# EAGLE library part MC74HC4053 (library MC74HC4053)
Triple single-pole, Double-position plus common off Analog multiplexer/demultiplexer
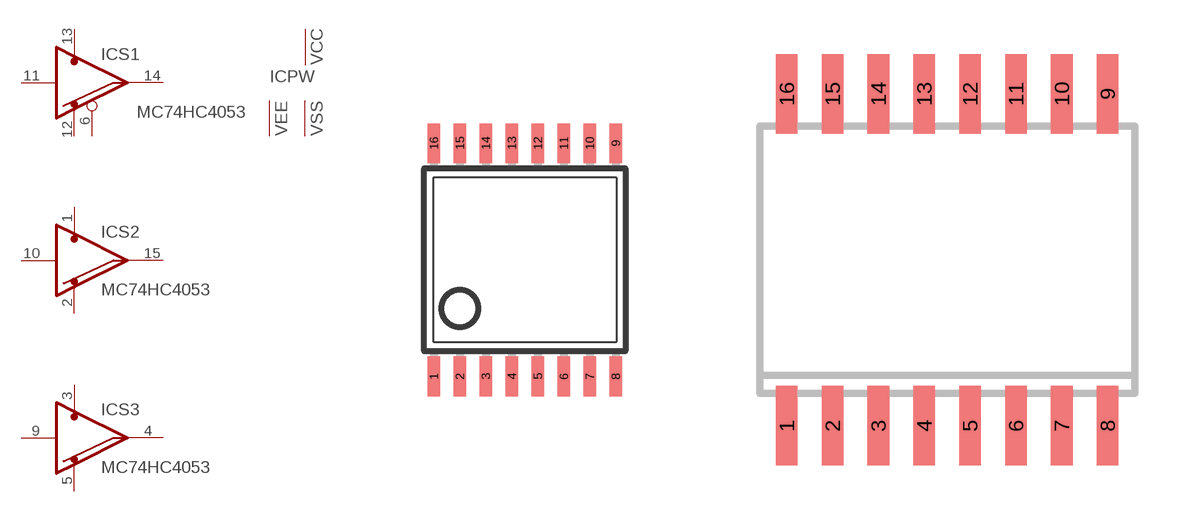
[diagram p0: symbol with the pads of TSSOP16; footprints TSSOP16, SO16W]

Designator prefix IC; gates S1=S1_HC4053 S2=S2_HC4053 S3=S3_HC4053 PW=PWR+VEE

## MC74HC4053DT  [TSSOP16]
1  S2:O1
2  S2:O2
3  S3:O1
4  S3:O
5  S3:O2
6  S1:P$1  in
7  PW:VEE  pwr
8  PW:GND  pwr
9  S3:I  in
10  S2:I  in
11  S1:I  in
12  S1:O2
13  S1:O1
14  S1:O
15  S2:O
16  PW:VCC  pwr

## MC74HC4053DW  [SO16W]
Pads as for TSSOP16

## MC74HC4053D  [SO16]
Pads as for TSSOP16

## MC74HC4053N  [DIL16]
Pads as for TSSOP16

## MC74HC4053J  [DIL16]
Pads as for TSSOP16

## Footprint TSSOP16 (pad centres in mm)
Thin Shrink Small Outline Integrated Circuit Plastic 16, body 4.40 mm
smd 0.305 x 0.991: 1 -2.275,-2.918; 2 -1.625,-2.918; 3 -0.975,-2.918; 4 -0.325,-2.918; 5 0.325,-2.918; 6 0.975,-2.918; 7 1.625,-2.918; 8 2.275,-2.918; 9 2.275,2.918; 10 1.625,2.918; 11 0.975,2.918; 12 0.325,2.918; 13 -0.325,2.918; 14 -0.975,2.918; 15 -1.625,2.918; 16 -2.275,2.918

## Footprint SO16W (pad centres in mm)
SMALL OUTLINE INTEGRATED CIRCUIT Plastic 16, wide body 7.5 mm/JEDEC MS-013AA
smd 0.6 x 2.2: 1 -4.445,-4.6; 2 -3.175,-4.6; 3 -1.905,-4.6; 4 -0.635,-4.6; 5 0.635,-4.6; 6 1.905,-4.6; 7 3.175,-4.6; 8 4.445,-4.6; 9 4.445,4.6; 10 3.175,4.6; 11 1.905,4.6; 12 0.635,4.6; 13 -0.635,4.6; 14 -1.905,4.6; 15 -3.175,4.6; 16 -4.445,4.6

## Footprint SO16 (pad centres in mm)
SMALL OUTLINE INTEGRATED CIRCUIT Plastic 16, body 3.9 mm/JEDEC MS-012AC
smd 0.6 x 2.2: 1 -4.445,-2.6; 2 -3.175,-2.6; 3 -1.905,-2.6; 4 -0.635,-2.6; 5 0.635,-2.6; 6 1.905,-2.6; 7 3.175,-2.6; 8 4.445,-2.6; 9 4.445,2.6; 10 3.175,2.6; 11 1.905,2.6; 12 0.635,2.6; 13 -0.635,2.6; 14 -1.905,2.6; 15 -3.175,2.6; 16 -4.445,2.6

## Footprint DIL16 (pad centres in mm)
Dual Inline Package
drill 0.813 pad 1.422 long: 1 -8.89,-3.81; 2 -6.35,-3.81; 3 -3.81,-3.81; 4 -1.27,-3.81; 5 1.27,-3.81; 6 3.81,-3.81; 7 6.35,-3.81; 8 8.89,-3.81; 9 8.89,3.81; 10 6.35,3.81; 11 3.81,3.81; 12 1.27,3.81; 13 -1.27,3.81; 14 -3.81,3.81; 15 -6.35,3.81; 16 -8.89,3.81